# Altium footprint library SparkFun-Electromechanical.PCBLIB: 151 footprints (part 9 of 11)
Each footprint in its own frame and in the unit in brackets; x right, y up, seen from the top. Pads: shape width x height; smd on the part's side, far side on the other; paste and mask are expansions set on the pad; w line width, h text height; cw(c..) or ccw(c..) is an arc to the next point about the centre after c.
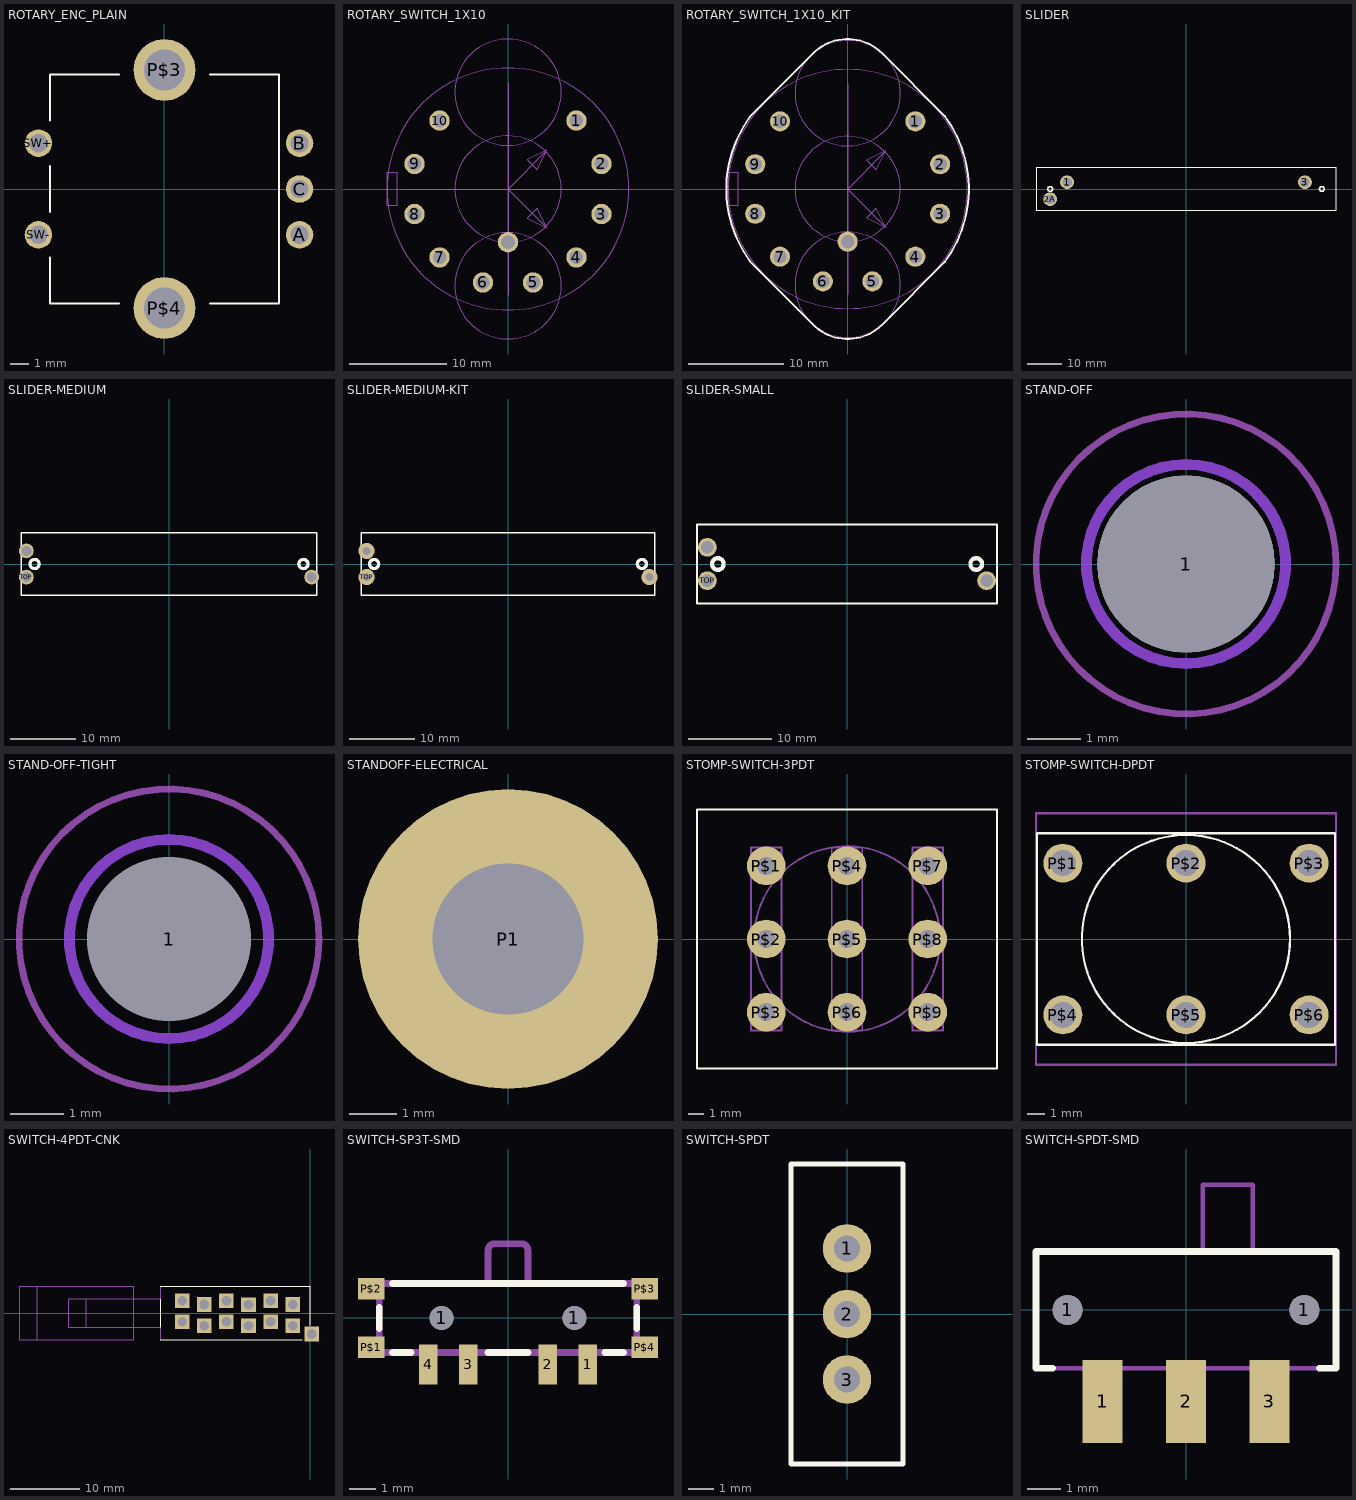
[diagram p8: the footprints below, top view; thin cyan lines are the x and y axes]

## ROTARY_ENC_PLAIN [mil]
pads (7):
  round 60 hole 40: A(295,-100) B(295,100) C(295,0) SW+(-275,100) SW-(-275,-100)
  round 135 hole 90: P$3(0,260) P$4(0,-260)
Top Overlay:
  lines w5: -250,-150 -250,-250 -100,-250 ; -250,-50 -250,50 ; -250,150 -250,250 -100,250 ; 100,-250 250,-250 250,250 100,250

## ROTARY_SWITCH_1X10 [mil]
pads (11):
  round 82.68 hole 55.12: 1(278.39,278.39) 2(380.29,101.9) 3(380.29,-101.9) 4(278.39,-278.39) 5(101.9,-380.29) 6(-101.9,-380.29) 7(-278.39,-278.39) 8(-380.29,-101.9) 9(-380.29,101.9) 10(-278.39,278.39) COMMON(0,-216.54)
Mechanical 16:
  circle w5: c0,0 r216.54
  circle w5: c0,0 r492.13
  circle w5: c0,393.7 r216.54
  circle w5: c0,-393.7 r216.54
  lines w5: -433.07,0 0,0 ; 0,-433.07 0,0 ; 0,433.07 0,0 ; 433.07,0 0,0 ; 0,0 157.48,-157.48 ; 0,0 157.48,157.48 ; 157.48,-157.48 118.11,-78.74 78.74,-118.11 157.48,-157.48 ; 157.48,157.48 78.74,118.11 118.11,78.74 157.48,157.48 ; -492.13,-68.9 -452.76,-68.9 -452.76,68.9 -492.13,68.9 -492.13,-68.9
  text "1" at 157.48,-196.85 h42.5
  text "10" at 157.48,157.48 h42.5

## ROTARY_SWITCH_1X10_KIT [mil]
pads (11):
  round 82.68 hole 55.12: 1(278.39,278.39) 2(380.29,101.9) 3(380.29,-101.9) 4(278.39,-278.39) 5(101.9,-380.29) 6(-101.9,-380.29) 7(-278.39,-278.39) 8(-380.29,-101.9) 9(-380.29,101.9) 10(-278.39,278.39) COMMON(0,-216.54)
Top Overlay:
  lines w8: -415.1,-277.35 cw(c0.92,0) -415.1,277.35 -400,300 -141.42,558.58 cw(c0,417.16) 141.42,558.58 400,300 414.18,278.73 cw(c-3.91,0) 414.18,-278.73 400,-300 141.42,-558.58 cw(c0,-417.16) -141.42,-558.58 -400,-300 -415.1,-277.35
Top Solder:
  circle w0: c-278.39,278.39 r27.56
  circle w0: c-380.29,101.9 r27.56
  circle w0: c-380.29,-101.9 r27.56
  circle w0: c-278.39,-278.39 r27.56
  circle w0: c0,-216.54 r27.56
  circle w0: c-101.9,-380.29 r27.56
  circle w0: c101.9,-380.29 r27.56
  circle w0: c278.39,-278.39 r27.56
  circle w0: c380.29,-101.9 r27.56
  circle w0: c380.29,101.9 r27.56
  circle w0: c278.39,278.39 r27.56
Bottom Solder:
  circle w0: c-278.39,278.39 r41.34
  circle w0: c-380.29,101.9 r41.34
  circle w0: c-380.29,-101.9 r41.34
  circle w0: c0,-216.54 r41.34
  circle w0: c-278.39,-278.39 r41.34
  circle w0: c-101.9,-380.29 r41.34
  circle w0: c101.9,-380.29 r41.34
  circle w0: c278.39,-278.39 r41.34
  circle w0: c380.29,-101.9 r41.34
  circle w0: c380.29,101.9 r41.34
  circle w0: c278.39,278.39 r41.34
Mechanical 16:
  circle w5: c0,0 r216.54
  circle w5: c0,0 r492.13
  circle w5: c0,393.7 r216.54
  circle w5: c0,-393.7 r216.54
  lines w5: -433.07,0 0,0 ; 0,-433.07 0,0 ; 0,433.07 0,0 ; 433.07,0 0,0 ; 0,0 157.48,-157.48 ; 0,0 157.48,157.48 ; 157.48,-157.48 118.11,-78.74 78.74,-118.11 157.48,-157.48 ; 157.48,157.48 78.74,118.11 118.11,78.74 157.48,157.48 ; -492.13,-68.9 -452.76,-68.9 -452.76,68.9 -492.13,68.9 -492.13,-68.9
  text "1" at 157.48,-196.85 h42.5
  text "10" at 157.48,157.48 h42.5

## SLIDER [mil]
pads (3):
  round 160 hole 110.24: 1(-1377.95,78.74) 2A(-1574.8,-118.11) 3(1377.95,78.74)
Top Overlay:
  circle w19.69: c-1574.8,0 r27.56
  circle w19.69: c1574.8,0 r27.56
  lines w8: -1738.19,-246.06 1738.19,-246.06 1738.19,246.06 -1738.19,246.06 -1738.19,-246.06

## SLIDER-MEDIUM [mm]
pads (3):
  round 2.25 hole 1.5: BOTTOM(21.75,-2) TOP(-21.75,-2) WIPER(-21.75,2)
Top Overlay:
  circle w0.5: c-20.5,0 r0.7
  circle w0.5: c20.5,0 r0.7
  lines w0.203: -22.5,-4.75 22.5,-4.75 22.5,4.75 -22.5,4.75 -22.5,-4.75

## SLIDER-MEDIUM-KIT [mm]
pads (3):
  round 2.5 hole 1.2: BOTTOM(21.65,-2) TOP(-21.65,-2) WIPER(-21.65,2)
Top Overlay:
  circle w0.5: c-20.5,0 r0.7
  circle w0.5: c20.5,0 r0.7
  lines w0.203: -22.5,-4.75 22.5,-4.75 22.5,4.75 -22.5,4.75 -22.5,-4.75
Top Solder:
  circle w0: c-21.65,2 r0.6
  circle w0: c-21.65,-2 r0.6
  circle w0: c21.65,-2 r0.6
Bottom Solder:
  circle w0: c-21.65,2 r1.315
  circle w0: c-21.65,-2 r1.315
  circle w0: c21.65,-2 r1.315
Mechanical 16:
  rectangle: -22,1.5 -21.5,2.5
  rectangle: -22,-2.5 -21.5,-1.5
  rectangle: 21.5,-2.5 22,-1.5

## SLIDER-SMALL [mm]
pads (3):
  round 2.25 hole 1.5: BOTTOM(16.75,-2) TOP(-16.75,-2) WIPER(-16.75,2)
Top Overlay:
  circle w0.5: c-15.5,0 r0.7
  circle w0.5: c15.5,0 r0.7
  lines w0.203: -18,-4.75 18,-4.75 18,4.75 -18,4.75 -18,-4.75

## STAND-OFF [mil]
pads (1):
  round 130 hole 130: 1(0,0)
Top Layer keep-out:
  lines w8: 0,-73 ccw(c0,0) 0,73 ccw(c0,0) 0,-73
Bottom Layer keep-out:
  lines w8: 0,-73 ccw(c0,0) 0,73 ccw(c0,0) 0,-73
Mechanical 27:
  circle w5: c0,0 r110

## STAND-OFF-TIGHT [mil]
pads (1):
  round 120 hole 120: 1(0,0)
Top Layer keep-out:
  lines w8: 0,-73 ccw(c0,0) 0,73 ccw(c0,0) 0,-73
Bottom Layer keep-out:
  lines w8: 0,-73 ccw(c0,0) 0,73 ccw(c0,0) 0,-73
Mechanical 27:
  circle w5: c0,0 r110

## STANDOFF-ELECTRICAL [mil]
pads (1):
  round 250 hole 125.98: P1(0,0)

## STOMP-SWITCH-3PDT [mil]
pads (9):
  round 100 hole 47.24: P$1(-208.66,188.98) P$2(-208.66,0) P$3(-208.66,-188.98) P$4(0,188.98) P$5(0,0) P$6(0,-188.98) P$7(208.66,188.98) P$8(208.66,0) P$9(208.66,-188.98)
Top Overlay:
  lines w5: -387.8,-334.65 -387.8,334.65 ; -387.8,-334.65 387.8,-334.65 ; -387.8,-334.65 387.8,-334.65 ; -387.8,-334.65 -387.8,334.65 ; -387.8,334.65 387.8,334.65 ; -387.8,334.65 387.8,334.65 ; 387.8,-334.65 387.8,334.65 ; 387.8,-334.65 387.8,334.65
Mechanical 16:
  circle w5: c0,0 r240.16
  lines w5: -248.03,-236.22 -248.03,236.22 -169.29,236.22 -169.29,-236.22 -248.03,-236.22 ; -39.37,-236.22 39.37,-236.22 39.37,236.22 -39.37,236.22 -39.37,-236.22 ; 169.29,-236.22 169.29,236.22 248.03,236.22 248.03,-236.22 169.29,-236.22

## STOMP-SWITCH-DPDT [mil]
pads (6):
  round 88.59 hole 59.06: P$1(-279.53,172.24) P$2(0,172.24) P$3(279.53,172.24) P$4(-279.53,-172.24) P$5(0,-172.24) P$6(279.53,-172.24)
Top Overlay:
  circle w5: c0,0 r236.22
  lines w5: -338.58,-240.16 -338.58,240.16 338.58,240.16 338.58,-240.16 -338.58,-240.16
Mechanical 16:
  lines w5: -340.55,-285.43 340.55,-285.43 340.55,285.43 -340.55,285.43 -340.55,-285.43

## SWITCH-4PDT-CNK [mil]
pads (13):
  rect 82.68x82.68 hole 55.12: P$13(8,-118) PP$1(-725,-49) PP$2(-600,-71) PP$3(-475,-49) PP$4(-350,-71) PP$5(-225,-49) PP$6(-100,-71) PP$7(-725,71) PP$8(-600,49) PP$9(-475,71) PP$10(-350,47) PP$11(-225,71) PP$12(-100,49)
Top Overlay:
  lines w5: -850,-150 -46,-150 ; -850,-79 -850,79 ; -850,150 0,150 0,-67
Mechanical 14:
  lines w5: -1272,-79 -1271,-79 ; -850,-150 -850,-79 ; -850,79 -850,150
Mechanical 16:
  rectangle: -745.9,-71.6 -704.9,-48.6
  rectangle: -620.5,-71.6 -579.5,-48.6
  rectangle: -495.1,-71.6 -454.1,-48.6
  rectangle: -369.7,-71.6 -328.7,-48.6
  rectangle: -244.3,-71.6 -203.3,-48.6
  rectangle: -118.9,-71.6 -77.9,-48.6
  rectangle: -745.9,47.9 -704.9,70.9
  rectangle: -620.5,47.9 -579.5,70.9
  rectangle: -495.1,47.9 -454.1,70.9
  rectangle: -369.7,47.9 -328.7,70.9
  rectangle: -244.3,47.9 -203.3,70.9
  rectangle: -118.9,47.9 -77.9,70.9
  region: 7.5,-138.5 7.5,-97.5 -15.5,-97.5 -15.5,-138.5
  lines w5: -1272,-79 -1272,79 ; -850,-79 -1271,-79 -1370,-79 -1370,79 -1272,79 ; -850,79 -1272,79 ; -1550,-150 -1550,150 ; -1550,-150 -1000,-150 -1000,150 -1550,150 ; -1550,-150 -1650,-150 -1650,150 -1550,150

## SWITCH-SP3T-SMD [mm]
pads (10):
  round 0.9 hole 0.9: 1(-2.5,0) 1(2.5,0)
  rect 0.7x1.5 smd: 1(3,-1.75) 2(1.5,-1.75) 3(-1.5,-1.75) 4(-3,-1.75)
  rect 1x0.8 smd: P$1(-5.15,-1.1) P$2(-5.15,1.1) P$3(5.15,1.1) P$4(5.15,-1.1)
Top Overlay:
  lines w0.254: -4.85,-0.4 -4.85,0.4 ; -4.35,-1.3 -3.65,-1.3 ; -4.35,1.3 4.35,1.3 ; -0.75,-1.3 0.75,-1.3 ; 3.65,-1.3 4.35,-1.3 ; 4.85,-0.4 4.85,0.4
Mechanical 16:
  rectangle: 1.3,-2.2 1.7,-1.3
  rectangle: 2.8,-2.2 3.2,-1.3
  rectangle: -1.7,-2.2 -1.3,-1.3
  rectangle: -3.2,-2.2 -2.8,-1.3
  rectangle: 4.85,0.9 5.35,1.3
  region: -4.85,1.3 -5.35,1.3 -5.35,0.9 -4.85,0.9
  region: -4.85,-0.9 -5.35,-0.9 -5.35,-1.3 -4.85,-1.3
  rectangle: 4.85,-1.3 5.35,-0.9
  lines w0.254: -0.75,1.3 -0.75,2.55 cw(c-0.5,2.55) -0.5,2.8 0.5,2.8 cw(c0.5,2.55) 0.75,2.55 0.75,1.3 ; -4.85,-1.3 4.85,-1.3 4.85,1.3 -4.85,1.3 -4.85,-1.3

## SWITCH-SPDT [mil]
pads (3):
  round 74 hole 40: 1(0,100) 2(0,0) 3(0,-100)
Top Overlay:
  lines w8: -85.63,-228.94 -85.63,228.94 85.63,228.94 85.63,-228.94 -85.63,-228.94

## SWITCH-SPDT-SMD [mil]
pads (5):
  round 35.43 hole 35.43: 1(-139.76,0) 1(139.76,0)
  rect 47.24x98.43 smd: 1(-98.43,-108.27) 2(0,-108.27) 3(98.43,-108.27)
Top Overlay:
  lines w8: -157.48,-68.9 -177.17,-68.9 -177.17,68.9 177.17,68.9 177.17,-68.9 157.48,-68.9
Mechanical 16:
  lines w5: 19.69,68.9 78.74,68.9 ; 19.69,68.9 -177.17,68.9 -177.17,-68.9 177.17,-68.9 177.17,68.9 78.74,68.9 ; 19.69,68.9 19.69,147.64 78.74,147.64 78.74,68.9